# Altium footprint library RSX_Miscellaneous.PcbLib: 8 footprints
Each footprint in its own frame and in the unit in brackets; x right, y up, seen from the top. Pads: shape width x height; smd on the part's side, far side on the other; paste and mask are expansions set on the pad; w line width, h text height; cw(c..) or ccw(c..) is an arc to the next point about the centre after c.
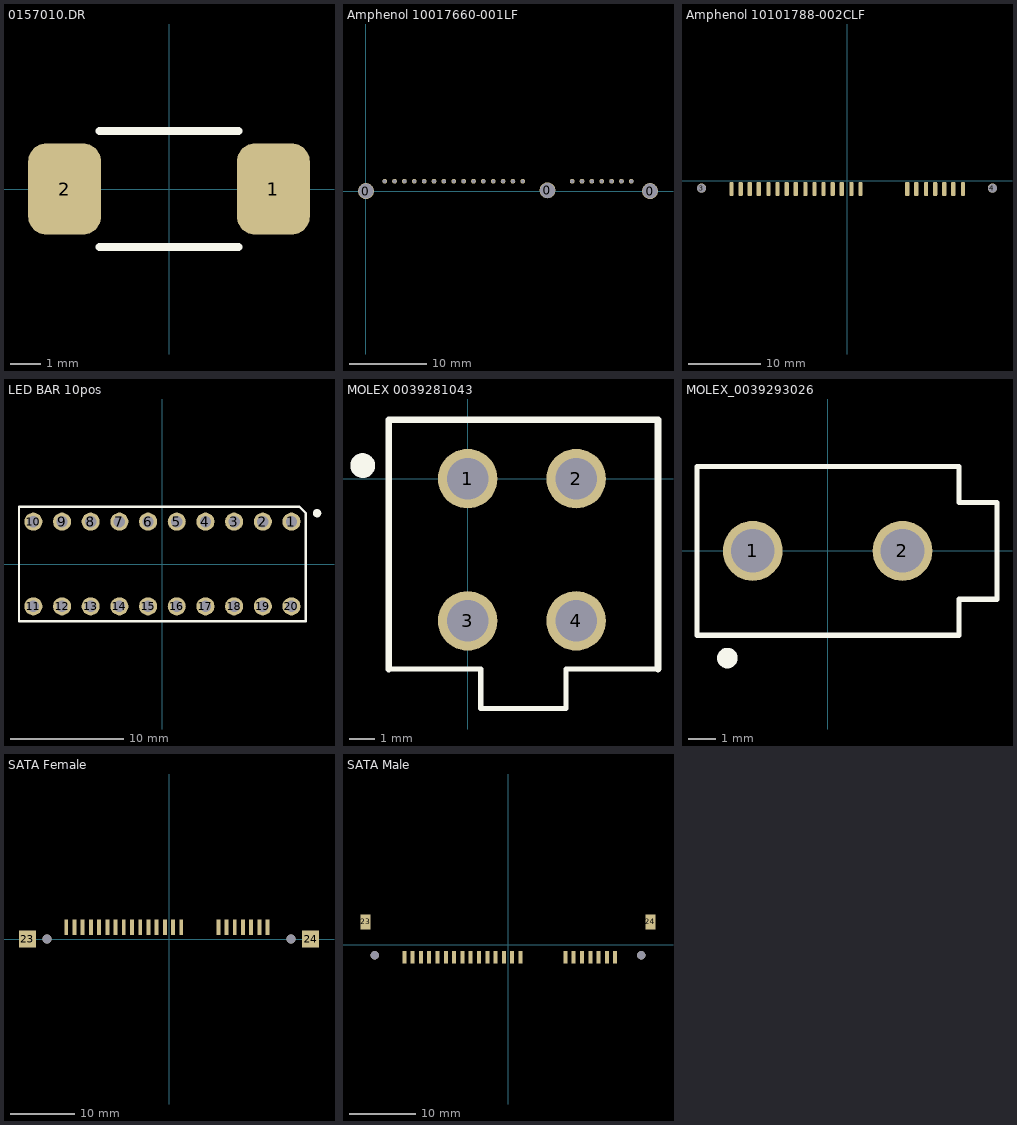
[diagram p0: the footprints below, top view; thin cyan lines are the x and y axes]

## 0157010.DR [mm]
pads (2):
  rrect50% 2.4x3 smd: 1(3.43,0) 2(-3.43,0)
Top Overlay:
  lines w0.254: -2.286,-1.905 2.286,-1.905 ; -2.286,1.905 2.286,1.905
3D body: height 3.9, standoff 0, extent -3.286,-1.841 3.286,1.842

## Amphenol 10017660-001LF [mm] "FEMALE SATA TH 22POS"
pads (25):
  round 2.05 hole 1.95: 0(0,0) 0(23.365,0.1) 0(36.57,0)
  round 0.6 hole 0.5: 1(2.41,1.27) 2(3.68,1.27) 3(4.95,1.27) 4(6.22,1.27) 5(7.49,1.27) 6(8.76,1.27) 7(10.03,1.27) 8(11.3,1.27) 9(12.57,1.27) 10(13.84,1.27) 11(15.11,1.27) 12(16.38,1.27) 13(17.65,1.27) 14(18.92,1.27) 15(20.19,1.27) 16(26.54,1.27) 17(27.81,1.27) 18(29.08,1.27) 19(30.35,1.27) 20(31.62,1.27) 21(32.89,1.27) 22(34.16,1.27)
3D body "10017660-001c.stp": height 9.85, standoff -2.95, extent -1.93,-2.5 38.5,2.5

## Amphenol 10101788-002CLF [mm] "MALE R/A SATA SMT"
pads (24):
  rrect50% 0.6x1.9 smd: 1(-15.875,-1.1) 2(-14.63,-1.1) 3(-13.385,-1.1) 4(-12.14,-1.1) 5(-10.795,-1.1) 6(-9.55,-1.1) 7(-8.305,-1.1) 8(-7.06,-1.1) 9(-5.715,-1.1) 10(-4.47,-1.1) 11(-3.225,-1.1) 12(-1.98,-1.1) 13(-0.735,-1.1) 14(0.61,-1.1) 15(1.855,-1.1) 16(8.28,-1.1) 17(9.525,-1.1) 18(10.87,-1.1) 19(12.115,-1.1) 20(13.36,-1.1) 21(14.605,-1.1) 22(15.95,-1.1)
  round 1.25 hole 1.2: 3(-20,-0.98) 4(20,-0.98)
3D body "10101788c.stp": height 3.3, standoff -2.3, extent -22.75,-2 22.75,8.5

## LED BAR 10pos [mm]
pads (20):
  round 1.6 hole 1: 1(11.43,3.746) 2(8.89,3.746) 3(6.35,3.746) 4(3.81,3.746) 5(1.27,3.746) 6(-1.27,3.746) 7(-3.81,3.746) 8(-6.35,3.746) 9(-8.89,3.746) 10(-11.43,3.746) 11(-11.43,-3.746) 12(-8.89,-3.746) 13(-6.35,-3.746) 14(-3.81,-3.746) 15(-1.27,-3.746) 16(1.27,-3.746) 17(3.81,-3.746) 18(6.35,-3.746) 19(8.89,-3.746) 20(11.43,-3.746)
Top Overlay:
  circle w0.4: c13.7,4.5 r0.168
  lines w0.2: 12.125,5.075 12.15,5.075 ; 12.15,5.075 12.7,4.525 12.7,-5.08 -12.7,-5.08 -12.7,5.08 12.15,5.08 12.15,5.075
3D body "XGxx10.step": height 8.01, standoff -3.99, extent -12.7,-5.08 12.7,5.08

## MOLEX 0039281043 [mm] "Connector Header Through Hole 4 position 0.165\" (4.20mm)"
pads (4):
  round 2.3 hole 1.6: 1(0,0) 2(4.2,0) 3(0,-5.5) 4(4.2,-5.5)
Top Overlay:
  circle w0.6: c-4.064,0.508 r0.18
  lines w0.2: -3.048,-7.366 0.508,-7.366 0.508,-8.89 3.81,-8.89 3.81,-7.366 7.366,-7.366
  lines w0.254: -3.048,-7.366 -3.048,2.286 7.366,2.286 7.366,-7.366
3D body "039281043.stp": height 12.8, standoff -3.5, extent -3.066,-8.816 7.334,2.184

## MOLEX_0039293026 [mm]
pads (2):
  round 2.2 hole 1.6: 1(-2.75,0) 2(2.75,0)
Top Overlay:
  circle w0.5: c-3.683,-3.937 r0.127
  lines w0.2: -4.8,-3.1 -4.8,3.1 4.826,3.1 4.826,1.778 6.223,1.778 6.223,-1.778 4.826,-1.778 4.826,-3.1 -4.8,-3.1
3D body "039293026.stp": height 12.8, standoff -3.5, extent -4.8,-3.1 6.2,3.1

## SATA Female [mm]
pads (25):
  rect 0.6x2.35 smd: 1(-15.88,1.825) 2(-14.61,1.825) 3(-13.34,1.825) 4(-12.07,1.825) 5(-10.8,1.825) 6(-9.53,1.825) 7(-8.26,1.825) 8(-6.99,1.825) 9(-5.72,1.825) 10(-4.45,1.825) 11(-3.18,1.825) 12(-1.91,1.825) 13(-0.64,1.825) 14(0.63,1.825) 15(1.9,1.825) 16(7.62,1.825) 17(8.89,1.825) 18(10.16,1.825) 19(11.43,1.825) 20(12.7,1.825) 21(13.97,1.825) 22(15.24,1.825)
  rect 0x1.5 on Top Overlay: 7(6.1,0.5)
  rect 2.6x2.6 smd: 23(-21.88,0) 24(21.88,0)
via -18.88,0 diameter 1.4 hole 1.4
via 18.88,0 diameter 1.4 hole 1.4
Top Paste:
  lines w0.5: -23.18,-2.92 -23.18,0 -23.18,2.98 20.2,2.98 20.22,3 23.1,3 23.18,2.92 23.18,0 23.18,-2.98 -20.2,-2.98 ; -23.1,-3 -20.22,-3

## SATA Male [mm]
pads (24):
  rect 0.6x1.9 smd: 1(-15.55,-1.93) 2(-14.305,-1.93) 3(-13.06,-1.93) 4(-11.815,-1.93) 5(-10.57,-1.93) 6(-9.325,-1.93) 7(-8.08,-1.93) 8(-6.835,-1.93) 9(-5.59,-1.93) 10(-4.345,-1.93) 11(-3.1,-1.93) 12(-1.855,-1.93) 13(-0.61,-1.93) 14(0.635,-1.93) 15(1.88,-1.93) 16(8.605,-1.93) 17(9.85,-1.93) 18(11.095,-1.93) 19(12.34,-1.93) 20(13.585,-1.93) 21(14.83,-1.93) 22(16.075,-1.93)
  rect 1.5x2.26 smd: 23(-21.365,3.4) 24(21.365,3.4)
via -20,-1.6 diameter 1.3 hole 1.3
via 20,-1.6 diameter 1.3 hole 1.3
Top Paste:
  lines w0.5: -20.615,0.515 -20.615,4.53 ; -20.615,0.779 -20.615,0.015 -20.6,0 0,0 20.6,0 20.615,0.015 20.615,1.015 20.615,4.53